# Altium integrated library ADUCM355BCCZ.IntLib: 1 symbol
Pins are listed as number, name and electrical type; pins without a type are passive.

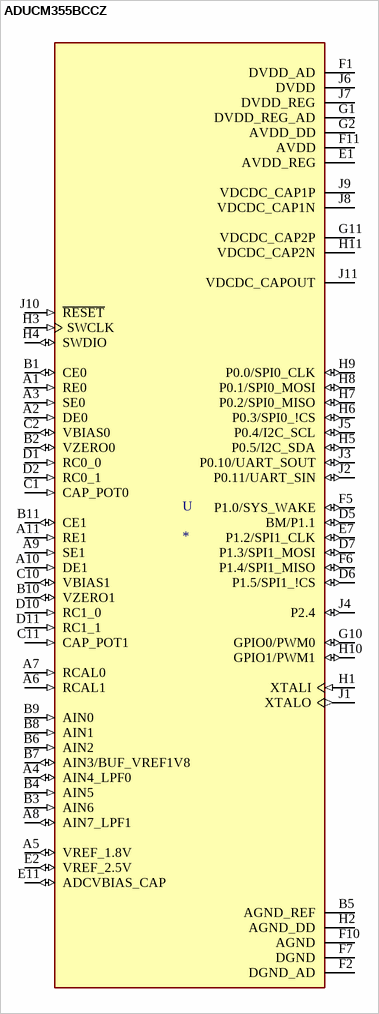
[diagram p0: symbol ADUCM355BCCZ]

## ADUCM355BCCZ
designator U
ARMÂ® CortexÂ®-M3 ADuCM Microcontroller IC 32-Bit 26MHz 128KB _128K x 8_ FLASH 72-LGA _6x6_; MF: Analog Devices; MP: ADUCM355BCCZ; SnapEDA_Link: https://www.snapeda.com/parts/ADUCM355BCCZ/Analog%20Devices%20Inc./view-part/3616453/?ref=snap; Value: *; Digi-Key_Part_Number: ADUCM355BCCZ-RL7-ND; Digi-Key_Purchase_URL: https://www.digikey.com/product-detail/en/analog-devices-inc/ADUCM355BCCZ-RL7/ADUCM355BCCZ-RL7-ND/9996949?utm_source=snapeda&utm_medium=aggregator&utm_campaign=symbol; Package: VFLGA-72 Analog Devices Inc.
footprint LGA72S50P11X9_600X500X100N
pins: A1 RE0 (in), A2 DE0 (in), A3 SE0 (in), A4 AIN4_LPF0 (io), A5 VREF_1.8V (io), A6 RCAL1 (in), A7 RCAL0 (in), A8 AIN7_LPF1 (io), A9 SE1 (in), A10 DE1 (in), A11 RE1 (in), B1 CE0 (io), B2 VZERO0 (io), B3 AIN6 (in), B4 AIN5 (in), B5 AGND_REF (power), B6 AIN2 (in), B7 AIN3/BUF_VREF1V8 (io), B8 AIN1 (in), B9 AIN0 (in), B10 VZERO1 (io), B11 CE1 (io), C1 CAP_POT0 (in), C2 VBIAS0 (io), C10 VBIAS1 (io), C11 CAP_POT1 (in), D1 RC0_0 (in), D2 RC0_1 (in), D5 BM/P1.1 (io), D6 P1.5/SPI1_!CS (io), D7 P1.3/SPI1_MOSI (io), D10 RC1_0 (in), D11 RC1_1 (in), E1 AVDD_REG (power), E2 VREF_2.5V (io), E7 P1.2/SPI1_CLK (io), E11 ADCVBIAS_CAP (io), F1 DVDD_AD (power), F2 DGND_AD (power), F5 P1.0/SYS_WAKE (io), F6 P1.4/SPI1_MISO (io), F7 DGND (power), F10 AGND (power), F11 AVDD (power), G1 DVDD_REG_AD (power), G2 AVDD_DD (power), G10 GPIO0/PWM0 (io), G11 VDCDC_CAP2P (power), H1 XTALI (in), H2 AGND_DD (power), H3 SWCLK (in), H4 SWDIO (io), H5 P0.5/I2C_SDA (io), H6 P0.3/SPI0_!CS (io), H7 P0.2/SPI0_MISO (io), H8 P0.1/SPI0_MOSI (io), H9 P0.0/SPI0_CLK (io), H10 GPIO1/PWM1 (io), H11 VDCDC_CAP2N (power), J1 XTALO (out), J2 P0.11/UART_SIN (io), J3 P0.10/UART_SOUT (io), J4 P2.4 (io), J5 P0.4/I2C_SCL (io), J6 DVDD (power), J7 DVDD_REG (power), J8 VDCDC_CAP1N (power), J9 VDCDC_CAP1P (power), J10 ~{RESET} (in), J11 VDCDC_CAPOUT (power)